# Altium schematic symbol library Motor_Drivers.SchLib: 1 symbol
Pins are listed as number, name and electrical type; pins without a type are passive.

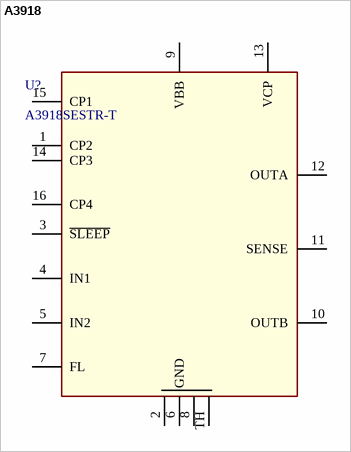
[diagram p0: symbol A3918]

## A3918
designator U?, comment A3918SESTR-T
pins: 1 CP2, 2 GND, 3 ~{SLEEP}, 4 IN1, 5 IN2, 6 GND, 7 FL, 8 GND, 9 VBB, 10 OUTB, 11 SENSE, 12 OUTA, 13 VCP, 14 CP3, 15 CP1, 16 CP4, TH GND